# EAGLE library part CA3045* (library 1A-meinLib)
NPN TRANSISTOR ARRAY 3 x general purpose, 1 x differential Pair, 20V, 50mA
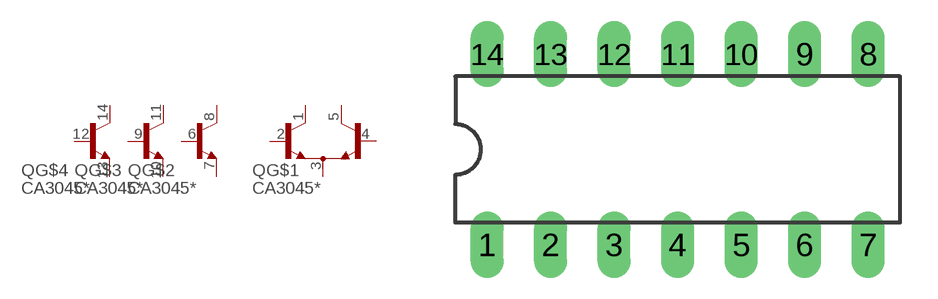
[diagram p172: symbol with the pads of DIL14; footprint DIL14]

Designator prefix Q; gates G$1=NPN-DIFF-PAIR G$2=NPN-ARRAY-SINGLE G$3=NPN-ARRAY-SINGLE G$4=NPN-ARRAY-SINGLE

## CA3045  [DIL14]
1  G$1:C  pas
2  G$1:B  pas
3  G$1:EE  pas
4  G$1:B1  pas
5  G$1:C1  pas
6  G$2:B  pas
7  G$2:E  pas
8  G$2:C  pas
9  G$3:B  pas
10  G$3:E  pas
11  G$3:C  pas
12  G$4:B  pas
13  G$4:E  pas
14  G$4:C  pas

## Footprint DIL14 (pad centres in mm)
Dual In Line Package
drill 0.813 long: 1 -7.62,-3.81; 2 -5.08,-3.81; 3 -2.54,-3.81; 4 0,-3.81; 5 2.54,-3.81; 6 5.08,-3.81; 7 7.62,-3.81; 8 7.62,3.81; 9 5.08,3.81; 10 2.54,3.81; 11 0,3.81; 12 -2.54,3.81; 13 -5.08,3.81; 14 -7.62,3.81